# Altium schematic symbol library RFD22301_Footprint.SchLib: 1 symbol
Pins are listed as number, name and electrical type; pins without a type are passive.

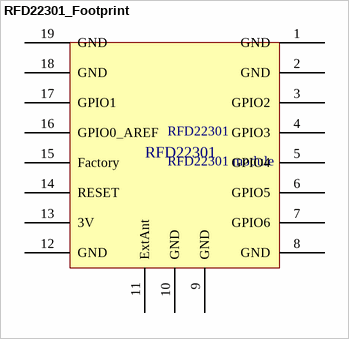
[diagram p0: symbol RFD22301_Footprint]

## RFD22301_Footprint
designator RFD22301, comment RFD22301 module
footprint RFD22301 (RFD22301 module 0.6x0.6 inches)
pins: 1 GND, 2 GND, 3 GPIO2, 4 GPIO3, 5 GPIO4, 6 GPIO5, 7 GPIO6, 8 GND, 9 GND, 10 GND, 11 ExtAnt, 12 GND, 13 3V, 14 RESET, 15 Factory, 16 GPIO0_AREF, 17 GPIO1, 18 GND, 19 GND